# EAGLE library part PJ-082BH (library PJ-082BH)
DC Power Connectors 2.5mm x 5.5mm horz Source: Datasheet <https://www.mouser.co.uk/datasheet/2/670/pj_082bh-1779031.pdf>
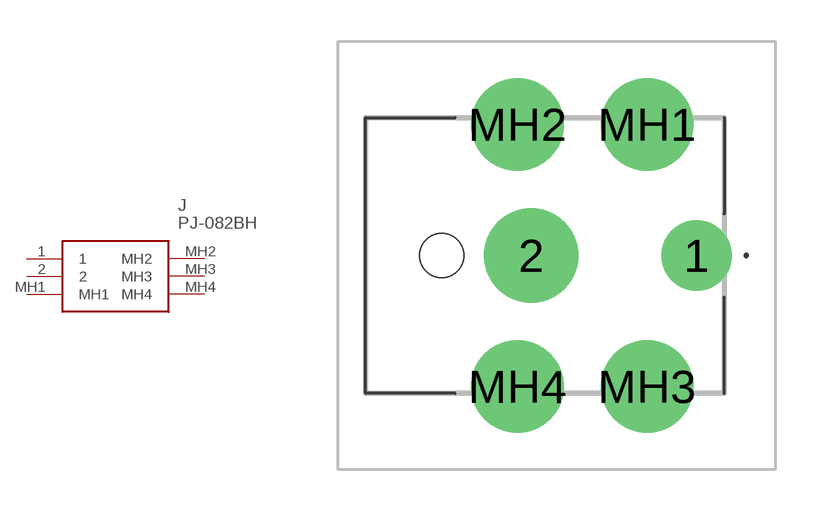
[diagram p0: symbol with the pads of PJ082BH; footprint PJ082BH]

Designator prefix J

## PJ-082BH (Description: DC Power Connectors 2.5mm x 5.5mm horz; Height: 10.2mm; Manufacturer_Name: CUI Devices; Manufacturer_Part_Number: PJ-082BH; Mouser_Part_Number: 490-PJ-082BH; Mouser_Price-Stock: https://www.mouser.co.uk/ProductDetail/CUI-Devices/PJ-082BH?qs=WyjlAZoYn52P2Lo8hPB1tg%3D%3D)  [PJ082BH]
1  1
2  2
MH1  MH1
MH2  MH2
MH3  MH3
MH4  MH4

## Footprint PJ082BH (pad centres in mm)
PJ-082BH-5
drill 1.7 pad 2.55: 1 0,0
drill 2.193 pad 3.42: 2 -6,0
drill 2.24 pad 3.36: MH1 -1.8,4.75; MH2 -6.5,4.75; MH3 -1.8,-4.75; MH4 -6.5,-4.75
hole 1.6 at -9.25,0